# Altium footprint library Capacitor_Ceramic_M1608_I0603.PcbLib: 1 footprints
Each footprint in its own frame and in the unit in brackets; x right, y up, seen from the top. Pads: shape width x height; smd on the part's side, far side on the other; paste and mask are expansions set on the pad; w line width, h text height; cw(c..) or ccw(c..) is an arc to the next point about the centre after c.
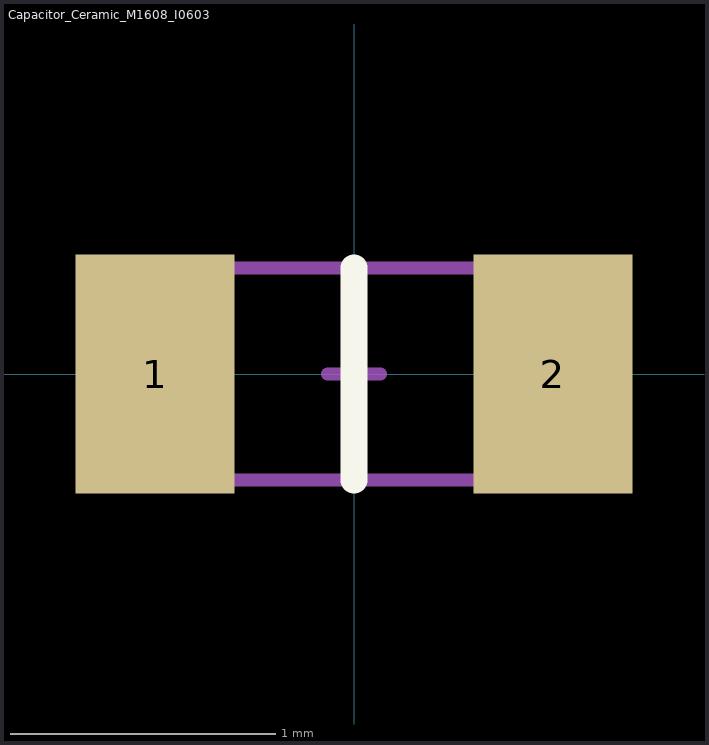
[diagram p0: the footprint, top view; thin cyan lines are the x and y axes]

## Capacitor_Ceramic_M1608_I0603 [mm] "Capacitor_Ceramic_M1608_I0603"
height 0.45
pads (2):
  rect 0.6x0.9 smd mask+0.05: 1(-0.75,0) 2(0.75,0)
Top Overlay:
  lines w0.1: 0,-0.4 0,0.4
Top Assembly:
  lines w0.05: -0.8,-0.4 -0.8,0.4 0.8,0.4 0.8,-0.4 -0.8,-0.4
Top Designator:
  text ".Designator" at -1,-1.05 h0.8
Top Component Center:
  lines w0.05: -0.1,0 0.1,0 ; 0,-0.1 0,0.1
3D body "Capacitor_Ceramic_M1608_I0603.step": height 0.81, standoff -0.01, extent -0.93,-0.413 0.93,0.413